# Altium footprint library IC.PCBLIB: 30 footprints (part 2 of 2)
Each footprint in its own frame and in the unit in brackets; x right, y up, seen from the top. Pads: shape width x height; smd on the part's side, far side on the other; paste and mask are expansions set on the pad; w line width, h text height; cw(c..) or ccw(c..) is an arc to the next point about the centre after c.
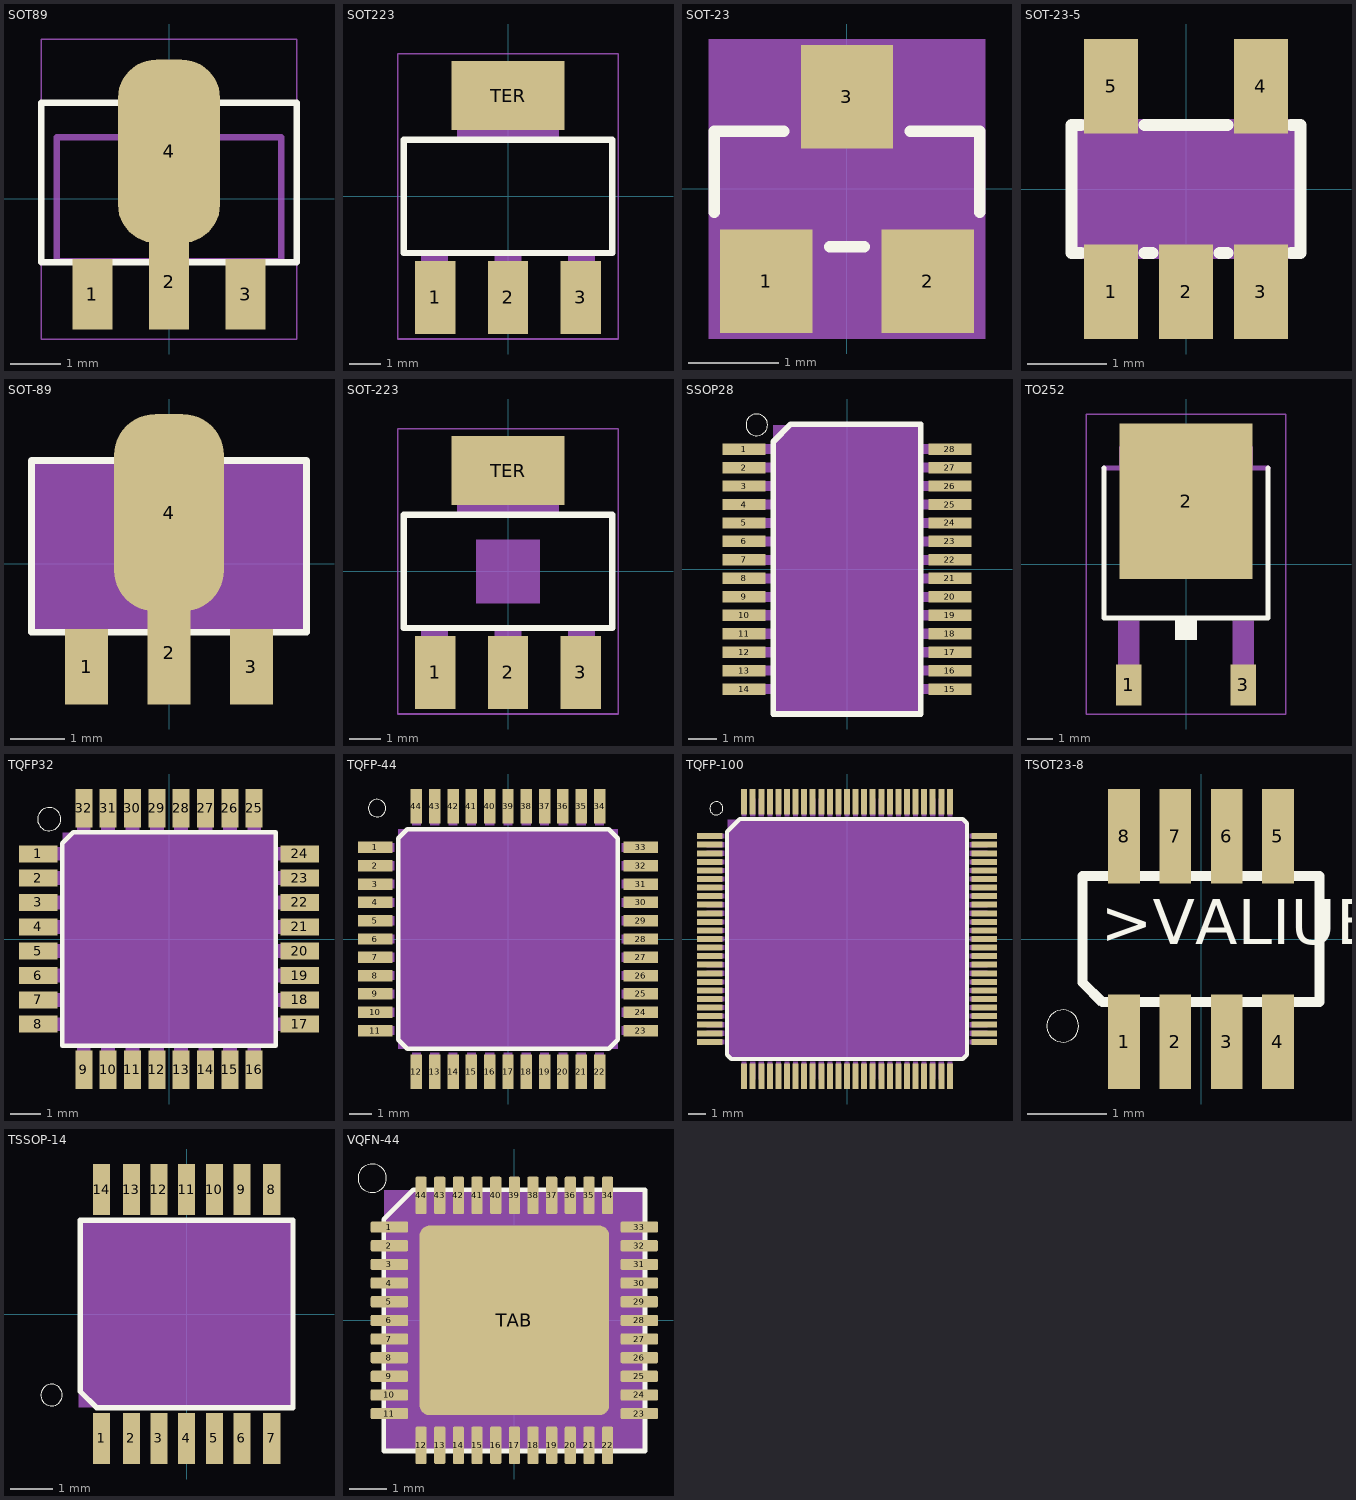
[diagram p1: the footprints below, top view; thin cyan lines are the x and y axes]

## SOT89 [mil]
pads (4):
  rect 31.5x55.12 smd: 1(-60,-75) 3(60,-75)
  rect 31.5x74.8 smd: 2(0,-65)
  rrect75% 80x143.7 smd: 4(0,37.01)
Top Overlay:
  lines w5: -100,-50 100,-50 100,75 -100,75 -100,-50
Top Paste:
  rectangle: -15.75,-105.51 15.75,-50.39
Top Solder:
  rectangle: -19.69,-109.45 19.69,-46.46
Mechanical 16:
  rectangle: -68,-83 -50,-50
  rectangle: 50,-83 68,-50
  rectangle: -11,-83 11,-50
  region: 0,0 10,0 10,10 0,10
  lines w5: -87.99,-49.02 87.99,-49.02 87.99,47.99 -87.99,47.99 -87.99,-49.02
  lines w7.87: -31,51 31,51 31,62 14,79 -14,79 -31,62 -31,51
Mechanical 27:
  lines w1: -100,-110 100,-110 100,125 -100,125 -100,-110

## SOT223 [mil]
pads (4):
  rect 50x90 smd: 1(-90,-125) 2(0,-125) 3(90,-125)
  rect 140x85 smd: TER(0,125)
Top Overlay:
  lines w8: -129.02,-70 129.02,-70 129.02,70 -129.02,70 -129.02,-70
Mechanical 16:
  rectangle: -63,71 63,144
  rectangle: -17,-144 17,-71
  rectangle: -108,-144 -74,-71
  rectangle: 74,-144 108,-71
  rectangle: -63,71 63,144
  rectangle: -17,-144 17,-71
  rectangle: -108,-144 -74,-71
  rectangle: 74,-144 108,-71
Mechanical 27:
  lines w2: -136.73,-176.5 136.73,-176.5 136.73,176.5 -136.73,176.5 -136.73,-176.5

## SOT-23 [mil]
pads (3):
  rect 40x45 smd: 1(-35,-40) 2(35,-40) 3(0,40)
Top Overlay:
  lines w5: -57.5,-10 -57.5,25 -27.5,25 ; -7.5,-25 7.5,-25 ; 27.5,25 57.5,25 57.5,-10
Mechanical 16:
  rectangle: -9,28 9,51
  rectangle: 28,-51 46,-28
  rectangle: -46,-51 -28,-28
Mechanical 27:
  rectangle: -60,-65 60,65

## SOT-23-5 [mil]
pads (5):
  rect 27.17x47.24 smd: 1(-37.4,-51.19) 2(0,-51.19) 3(37.4,-51.19) 4(37.4,51.19) 5(-37.4,51.19)
Top Overlay:
  lines w6: -52.27,-31.91 -57.09,-31.91 -57.09,31.91 -52.27,31.91 ; -20.57,-31.91 -16.83,-31.91 ; -20.57,31.91 20.57,31.91 ; 16.83,-31.91 20.57,-31.91 ; 52.27,-31.91 57.09,-31.91 57.09,31.91 52.27,31.91
Mechanical 16:
  rectangle: -47.24,-59.06 -27.56,-33.46
  rectangle: -9.84,-59.06 9.84,-33.46
  rectangle: 27.56,-59.06 47.24,-33.46
  rectangle: 27.56,33.46 47.24,59.06
  rectangle: -47.24,33.46 -27.56,59.06
  lines w6: -56,-31.91 56,-31.91 ; -56,31.91 56,31.91
Mechanical 27:
  rectangle: -55,-30 55,30

## SOT-89 [mil]
pads (4):
  rect 31.5x55.12 smd: 1(-60,-75) 3(60,-75)
  rect 31.5x74.8 smd: 2(0,-65)
  rrect75% 80x143.7 smd: 4(0,37.01)
Top Overlay:
  lines w5: -100,-50 100,-50 100,75 -100,75 -100,-50
Top Paste:
  rectangle: -15.75,-105.51 15.75,-50.39
Top Solder:
  rectangle: -19.69,-109.45 19.69,-46.46
Mechanical 16:
  rectangle: -68,-83 -50,-50
  rectangle: 50,-83 68,-50
  rectangle: -11,-83 11,-50
  region: 0,0 10,0 10,10 0,10
  lines w5: -87.99,-49.02 87.99,-49.02 87.99,47.99 -87.99,47.99 -87.99,-49.02
  lines w7.87: -31,51 31,51 31,62 14,79 -14,79 -31,62 -31,51
Mechanical 27:
  rectangle: -100,-50 100,75

## SOT-223 [mil]
pads (4):
  rect 50x90 smd: 1(-90,-125) 2(0,-125) 3(90,-125)
  rect 140x85 smd: TER(0,125)
Top Overlay:
  lines w8: -129.02,-70 129.02,-70 129.02,70 -129.02,70 -129.02,-70
Mechanical 6:
  rectangle: -39.37,-39.37 39.37,39.37
Mechanical 16:
  rectangle: -63,71 63,144
  rectangle: -17,-144 17,-71
  rectangle: -108,-144 -74,-71
  rectangle: 74,-144 108,-71
  rectangle: -63,71 63,144
  rectangle: -17,-144 17,-71
  rectangle: -108,-144 -74,-71
  rectangle: 74,-144 108,-71
Mechanical 27:
  lines w2: -136.73,-176.5 136.73,-176.5 136.73,176.5 -136.73,176.5 -136.73,-176.5

## SSOP28 [mil]
pads (28):
  rect 59.06x15.75 smd: 1(-142.72,166.34) 2(-142.72,140.75) 3(-142.72,115.16) 4(-142.72,89.57) 5(-142.72,63.98) 6(-142.72,38.39) 7(-142.72,12.8) 8(-142.72,-12.8) 9(-142.72,-38.39) 10(-142.72,-63.98) 11(-142.72,-89.57) 12(-142.72,-115.16) 13(-142.72,-140.75) 14(-142.72,-166.34) 15(142.72,-166.34) 16(142.72,-140.75) 17(142.72,-115.16) 18(142.72,-89.57) 19(142.72,-63.98) 20(142.72,-38.39) 21(142.72,-12.8) 22(142.72,12.8) 23(142.72,38.39) 24(142.72,63.98) 25(142.72,89.57) 26(142.72,115.16) 27(142.72,140.75) 28(142.72,166.34)
Top Overlay:
  circle w0: c-125,200 r15
  lines w8: -102.36,-200.79 -102.36,176.6 -78.18,200.79 102.36,200.79 102.36,-200.79 -102.36,-200.79
Mechanical 16:
  region: -155,173.34 -155,159.34 -104,159.34 -104,173.34
  region: -155,147.75 -155,133.75 -104,133.75 -104,147.75
  region: -155,122.16 -155,108.16 -104,108.16 -104,122.16
  region: -155,96.57 -155,82.57 -104,82.57 -104,96.57
  region: -155,70.98 -155,56.98 -104,56.98 -104,70.98
  region: -155,45.39 -155,31.39 -104,31.39 -104,45.39
  region: -155,19.8 -155,5.8 -104,5.8 -104,19.8
  region: -155,-5.8 -155,-19.8 -104,-19.8 -104,-5.8
  region: -155,-31.39 -155,-45.39 -104,-45.39 -104,-31.39
  region: -155,-56.98 -155,-70.98 -104,-70.98 -104,-56.98
  region: -155,-82.57 -155,-96.57 -104,-96.57 -104,-82.57
  region: -155,-108.16 -155,-122.16 -104,-122.16 -104,-108.16
  region: -155,-133.75 -155,-147.75 -104,-147.75 -104,-133.75
  region: -155,-159.34 -155,-173.34 -104,-173.34 -104,-159.34
  region: 104,-159.34 104,-173.34 155,-173.34 155,-159.34
  region: 104,-133.75 104,-147.75 155,-147.75 155,-133.75
  region: 104,-108.16 104,-122.16 155,-122.16 155,-108.16
  region: 104,-82.57 104,-96.57 155,-96.57 155,-82.57
  region: 104,-56.98 104,-70.98 155,-70.98 155,-56.98
  region: 104,-31.39 104,-45.39 155,-45.39 155,-31.39
  region: 104,-5.8 104,-19.8 155,-19.8 155,-5.8
  region: 104,19.8 104,5.8 155,5.8 155,19.8
  region: 104,45.39 104,31.39 155,31.39 155,45.39
  region: 104,70.98 104,56.98 155,56.98 155,70.98
  region: 104,96.57 104,82.57 155,82.57 155,96.57
  region: 104,122.16 104,108.16 155,108.16 155,122.16
  region: 104,147.75 104,133.75 155,133.75 155,147.75
  region: 104,173.34 104,159.34 155,159.34 155,173.34
Mechanical 27:
  region: -102.36,200 -102.36,-200 102.36,-200 102.36,200

## TO252 [mil]
pads (3):
  rect 40x65 smd: 1(-90,-190) 3(90,-190)
  rect 208.66x244.09 smd: 2(0,98.43)
Top Overlay:
  rectangle: -17,-119 17,-89
  lines w8: -129,151 -129.02,-85 129.02,-85 129,151
Mechanical 16:
  rectangle: -107,-203 -73,-89
  rectangle: 73,-203 107,-89
  region: 0,0 10,0 10,10 0,10
  lines w8: -129.02,150.98 129.03,150.97 ; -101,155 -101,183 -83,201 83,201 101,183 101,155 -101,155
Mechanical 27:
  lines w2: -156.42,-235.55 156.42,-235.55 156.42,235.55 -156.42,235.55 -156.42,-235.55

## TQFP32 [mil]
pads (32):
  rect 50x22 smd: 1(-169,110.24) 2(-169,78.74) 3(-169,47.24) 4(-169,15.75) 5(-169,-15.75) 6(-169,-47.24) 7(-169,-78.74) 8(-169,-110.24) 17(169,-110.24) 18(169,-78.74) 19(169,-47.24) 20(169,-15.75) 21(169,15.75) 22(169,47.24) 23(169,78.74) 24(169,110.24)
  rect 22x50 smd: 9(-110.24,-169) 10(-78.74,-169) 11(-47.24,-169) 12(-15.75,-169) 13(15.75,-169) 14(47.24,-169) 15(78.74,-169) 16(110.24,-169) 25(110.24,169) 26(78.74,169) 27(47.24,169) 28(15.75,169) 29(-15.75,169) 30(-47.24,169) 31(-78.74,169) 32(-110.24,169)
Top Overlay:
  circle w0: c-155,155 r15
  lines w6: -137.99,-137.99 137.99,-137.99 137.99,137.99 -124.02,137.99 -137.99,124.02 -137.99,-137.99
Mechanical 16:
  rectangle: -179,101.24 -140,119.24
  rectangle: -179,69.74 -140,87.74
  rectangle: -179,38.24 -140,56.24
  rectangle: -179,6.75 -140,24.75
  rectangle: -179,-24.75 -140,-6.75
  rectangle: -179,-56.24 -140,-38.24
  rectangle: -179,-87.74 -140,-69.74
  rectangle: -179,-119.24 -140,-101.24
  rectangle: -119.24,-179 -101.24,-140
  rectangle: -87.74,-179 -69.74,-140
  rectangle: -56.24,-179 -38.24,-140
  rectangle: -24.75,-179 -6.75,-140
  rectangle: 6.75,-179 24.75,-140
  rectangle: 38.24,-179 56.24,-140
  rectangle: 69.74,-179 87.74,-140
  rectangle: 101.24,-179 119.24,-140
  rectangle: 140,-119.24 179,-101.24
  rectangle: 140,-87.74 179,-69.74
  rectangle: 140,-56.24 179,-38.24
  rectangle: 140,-24.75 179,-6.75
  rectangle: 140,6.75 179,24.75
  rectangle: 140,38.24 179,56.24
  rectangle: 140,69.74 179,87.74
  rectangle: 140,101.24 179,119.24
  rectangle: 101.24,140 119.24,179
  rectangle: 69.74,140 87.74,179
  rectangle: 38.24,140 56.24,179
  rectangle: 6.75,140 24.75,179
  rectangle: -24.75,140 -6.75,179
  rectangle: -56.24,140 -38.24,179
  rectangle: -87.74,140 -69.74,179
  rectangle: -119.24,140 -101.24,179
Mechanical 27:
  rectangle: -137.99,-137.99 137.99,137.99

## TQFP-44 [mil]
pads (44):
  rect 59.06x19.69 smd: 1(-228.35,157.48) 2(-228.35,125.98) 3(-228.35,94.49) 4(-228.35,62.99) 5(-228.35,31.5) 6(-228.35,0) 7(-228.35,-31.5) 8(-228.35,-62.99) 9(-228.35,-94.49) 10(-228.35,-125.98) 11(-228.35,-157.48) 23(228.35,-157.48) 24(228.35,-125.98) 25(228.35,-94.49) 26(228.35,-62.99) 27(228.35,-31.5) 28(228.35,0) 29(228.35,31.5) 30(228.35,62.99) 31(228.35,94.49) 32(228.35,125.98) 33(228.35,157.48)
  rect 19.69x59.06 smd: 12(-157.48,-228.35) 13(-125.98,-228.35) 14(-94.49,-228.35) 15(-62.99,-228.35) 16(-31.5,-228.35) 17(0,-228.35) 18(31.5,-228.35) 19(62.99,-228.35) 20(94.49,-228.35) 21(125.98,-228.35) 22(157.48,-228.35) 34(157.48,228.35) 35(125.98,228.35) 36(94.49,228.35) 37(62.99,228.35) 38(31.5,228.35) 39(0,228.35) 40(-31.5,228.35) 41(-62.99,228.35) 42(-94.49,228.35) 43(-125.98,228.35) 44(-157.48,228.35)
Top Overlay:
  circle w0: c-225,225 r15
  lines w8: -188.98,-173.23 -173.23,-188.98 173.23,-188.98 188.98,-173.23 188.98,173.23 173.23,188.98 -173.23,188.98 -188.98,173.23 -188.98,-173.23
Mechanical 16:
  rectangle: -240.16,149.61 -194.88,165.35
  rectangle: -240.16,118.11 -194.88,133.86
  rectangle: -240.16,86.61 -194.88,102.36
  rectangle: -240.16,55.12 -194.88,70.87
  rectangle: -240.16,23.62 -194.88,39.37
  rectangle: -240.16,-7.87 -194.88,7.87
  rectangle: -240.16,-39.37 -194.88,-23.62
  rectangle: -240.16,-70.87 -194.88,-55.12
  rectangle: -240.16,-102.36 -194.88,-86.61
  rectangle: -240.16,-133.86 -194.88,-118.11
  rectangle: -240.16,-165.35 -194.88,-149.61
  rectangle: -165.35,-240.16 -149.61,-194.88
  rectangle: -133.86,-240.16 -118.11,-194.88
  rectangle: -102.36,-240.16 -86.61,-194.88
  rectangle: -70.87,-240.16 -55.12,-194.88
  rectangle: -39.37,-240.16 -23.62,-194.88
  rectangle: -7.87,-240.16 7.87,-194.88
  rectangle: 23.62,-240.16 39.37,-194.88
  rectangle: 55.12,-240.16 70.87,-194.88
  rectangle: 86.61,-240.16 102.36,-194.88
  rectangle: 118.11,-240.16 133.86,-194.88
  rectangle: 149.61,-240.16 165.35,-194.88
  rectangle: 194.88,-165.35 240.16,-149.61
  rectangle: 194.88,-133.86 240.16,-118.11
  rectangle: 194.88,-102.36 240.16,-86.61
  rectangle: 194.88,-70.87 240.16,-55.12
  rectangle: 194.88,-39.37 240.16,-23.62
  rectangle: 194.88,-7.87 240.16,7.87
  rectangle: 194.88,23.62 240.16,39.37
  rectangle: 194.88,55.12 240.16,70.87
  rectangle: 194.88,86.61 240.16,102.36
  rectangle: 194.88,118.11 240.16,133.86
  rectangle: 194.88,149.61 240.16,165.35
  rectangle: 149.61,194.88 165.35,240.16
  rectangle: 118.11,194.88 133.86,240.16
  rectangle: 86.61,194.88 102.36,240.16
  rectangle: 55.12,194.88 70.87,240.16
  rectangle: 23.62,194.88 39.37,240.16
  rectangle: -7.87,194.88 7.87,240.16
  rectangle: -39.37,194.88 -23.62,240.16
  rectangle: -70.87,194.88 -55.12,240.16
  rectangle: -102.36,194.88 -86.61,240.16
  rectangle: -133.86,194.88 -118.11,240.16
  rectangle: -165.35,194.88 -149.61,240.16
Mechanical 27:
  rectangle: -188.98,-188.98 188.98,188.98

## TQFP-100 [mm]
pads (100):
  rect 1.5x0.35 smd: 1(-8,6) 2(-8,5.5) 3(-8,5) 4(-8,4.5) 5(-8,4) 6(-8,3.5) 7(-8,3) 8(-8,2.5) 9(-8,2) 10(-8,1.5) 11(-8,1) 12(-8,0.5) 13(-8,0) 14(-8,-0.5) 15(-8,-1) 16(-8,-1.5) 17(-8,-2) 18(-8,-2.5) 19(-8,-3) 20(-8,-3.5) 21(-8,-4) 22(-8,-4.5) 23(-8,-5) 24(-8,-5.5) 25(-8,-6) 51(8,-6) 52(8,-5.5) 53(8,-5) 54(8,-4.5) 55(8,-4) 56(8,-3.5) 57(8,-3) 58(8,-2.5) 59(8,-2) 60(8,-1.5) 61(8,-1) 62(8,-0.5) 63(8,0) 64(8,0.5) 65(8,1) 66(8,1.5) 67(8,2) 68(8,2.5) 69(8,3) 70(8,3.5) 71(8,4) 72(8,4.5) 73(8,5) 74(8,5.5) 75(8,6)
  rect 0.35x1.5 smd: 26(-6,-8) 27(-5.5,-8) 28(-5,-8) 29(-4.5,-8) 30(-4,-8) 31(-3.5,-8) 32(-3,-8) 33(-2.5,-8) 34(-2,-8) 35(-1.5,-8) 36(-1,-8) 37(-0.5,-8) 38(0,-8) 39(0.5,-8) 40(1,-8) 41(1.5,-8) 42(2,-8) 43(2.5,-8) 44(3,-8) 45(3.5,-8) 46(4,-8) 47(4.5,-8) 48(5,-8) 49(5.5,-8) 50(6,-8) 76(6,8) 77(5.5,8) 78(5,8) 79(4.5,8) 80(4,8) 81(3.5,8) 82(3,8) 83(2.5,8) 84(2,8) 85(1.5,8) 86(1,8) 87(0.5,8) 88(0,8) 89(-0.5,8) 90(-1,8) 91(-1.5,8) 92(-2,8) 93(-2.5,8) 94(-3,8) 95(-3.5,8) 96(-4,8) 97(-4.5,8) 98(-5,8) 99(-5.5,8) 100(-6,8)
Top Overlay:
  circle w0: c-7.62,7.62 r0.381
  lines w0.254: -7,-6.75 -6.75,-7 6.75,-7 7,-6.75 7,6.75 6.75,7 -6.25,7 -7,6.25 -7,-6.75
Mechanical 16:
  circle w0.102: c3.59,-0.77 r0.5
  rectangle: -8.2,5.85 -7.15,6.15
  rectangle: -8.2,5.35 -7.15,5.65
  rectangle: -8.2,4.85 -7.15,5.15
  rectangle: -8.2,4.35 -7.15,4.65
  rectangle: -8.2,3.85 -7.15,4.15
  rectangle: -8.2,3.35 -7.15,3.65
  rectangle: -8.2,2.85 -7.15,3.15
  rectangle: -8.2,2.35 -7.15,2.65
  rectangle: -8.2,1.85 -7.15,2.15
  rectangle: -8.2,1.35 -7.15,1.65
  rectangle: -8.2,0.85 -7.15,1.15
  rectangle: -8.2,0.35 -7.15,0.65
  rectangle: -8.2,-0.15 -7.15,0.15
  rectangle: -8.2,-0.65 -7.15,-0.35
  rectangle: -8.2,-1.15 -7.15,-0.85
  rectangle: -8.2,-1.65 -7.15,-1.35
  rectangle: -8.2,-2.15 -7.15,-1.85
  rectangle: -8.2,-2.65 -7.15,-2.35
  rectangle: -8.2,-3.15 -7.15,-2.85
  rectangle: -8.2,-3.65 -7.15,-3.35
  rectangle: -8.2,-4.15 -7.15,-3.85
  rectangle: -8.2,-4.65 -7.15,-4.35
  rectangle: -8.2,-5.15 -7.15,-4.85
  rectangle: -8.2,-5.65 -7.15,-5.35
  rectangle: -8.2,-6.15 -7.15,-5.85
  rectangle: -6.15,-8.2 -5.85,-7.15
  rectangle: -5.65,-8.2 -5.35,-7.15
  rectangle: -5.15,-8.2 -4.85,-7.15
  rectangle: -4.65,-8.2 -4.35,-7.15
  rectangle: -4.15,-8.2 -3.85,-7.15
  rectangle: -3.65,-8.2 -3.35,-7.15
  rectangle: -3.15,-8.2 -2.85,-7.15
  rectangle: -2.65,-8.2 -2.35,-7.15
  rectangle: -2.15,-8.2 -1.85,-7.15
  rectangle: -1.65,-8.2 -1.35,-7.15
  rectangle: -1.15,-8.2 -0.85,-7.15
  rectangle: -0.65,-8.2 -0.35,-7.15
  rectangle: -0.15,-8.2 0.15,-7.15
  rectangle: 0.35,-8.2 0.65,-7.15
  rectangle: 0.85,-8.2 1.15,-7.15
  rectangle: 1.35,-8.2 1.65,-7.15
  rectangle: 1.85,-8.2 2.15,-7.15
  rectangle: 2.35,-8.2 2.65,-7.15
  rectangle: 2.85,-8.2 3.15,-7.15
  rectangle: 3.35,-8.2 3.65,-7.15
  rectangle: 3.85,-8.2 4.15,-7.15
  rectangle: 4.35,-8.2 4.65,-7.15
  rectangle: 4.85,-8.2 5.15,-7.15
  rectangle: 5.35,-8.2 5.65,-7.15
  rectangle: 5.85,-8.2 6.15,-7.15
  rectangle: 7.15,-6.15 8.2,-5.85
  rectangle: 7.15,-5.65 8.2,-5.35
  rectangle: 7.15,-5.15 8.2,-4.85
  rectangle: 7.15,-4.65 8.2,-4.35
  rectangle: 7.15,-4.15 8.2,-3.85
  rectangle: 7.15,-3.65 8.2,-3.35
  rectangle: 7.15,-3.15 8.2,-2.85
  rectangle: 7.15,-2.65 8.2,-2.35
  rectangle: 7.15,-2.15 8.2,-1.85
  rectangle: 7.15,-1.65 8.2,-1.35
  rectangle: 7.15,-1.15 8.2,-0.85
  rectangle: 7.15,-0.65 8.2,-0.35
  rectangle: 7.15,-0.15 8.2,0.15
  rectangle: 7.15,0.35 8.2,0.65
  rectangle: 7.15,0.85 8.2,1.15
  rectangle: 7.15,1.35 8.2,1.65
  rectangle: 7.15,1.85 8.2,2.15
  rectangle: 7.15,2.35 8.2,2.65
  rectangle: 7.15,2.85 8.2,3.15
  rectangle: 7.15,3.35 8.2,3.65
  rectangle: 7.15,3.85 8.2,4.15
  rectangle: 7.15,4.35 8.2,4.65
  rectangle: 7.15,4.85 8.2,5.15
  rectangle: 7.15,5.35 8.2,5.65
  rectangle: 7.15,5.85 8.2,6.15
  rectangle: 5.85,7.15 6.15,8.2
  rectangle: 5.35,7.15 5.65,8.2
  rectangle: 4.85,7.15 5.15,8.2
  rectangle: 4.35,7.15 4.65,8.2
  rectangle: 3.85,7.15 4.15,8.2
  rectangle: 3.35,7.15 3.65,8.2
  rectangle: 2.85,7.15 3.15,8.2
  rectangle: 2.35,7.15 2.65,8.2
  rectangle: 1.85,7.15 2.15,8.2
  rectangle: 1.35,7.15 1.65,8.2
  rectangle: 0.85,7.15 1.15,8.2
  rectangle: 0.35,7.15 0.65,8.2
  rectangle: -0.15,7.15 0.15,8.2
  rectangle: -0.65,7.15 -0.35,8.2
  rectangle: -1.15,7.15 -0.85,8.2
  rectangle: -1.65,7.15 -1.35,8.2
  rectangle: -2.15,7.15 -1.85,8.2
  rectangle: -2.65,7.15 -2.35,8.2
  rectangle: -3.15,7.15 -2.85,8.2
  rectangle: -3.65,7.15 -3.35,8.2
  rectangle: -4.15,7.15 -3.85,8.2
  rectangle: -4.65,7.15 -4.35,8.2
  rectangle: -5.15,7.15 -4.85,8.2
  rectangle: -5.65,7.15 -5.35,8.2
  rectangle: -6.15,7.15 -5.85,8.2
  region: 0,0 0.254,0 0.254,0.254 0,0.254
  region: 0,0 0.254,0 0.254,0.254 0,0.254
  region: 0,0 0.254,0 0.254,0.254 0,0.254
  region: 0,0 0.254,0 0.254,0.254 0,0.254
  region: 0,0 0.254,0 0.254,0.254 0,0.254
  region: 0,0 0.254,0 0.254,0.254 0,0.254
  lines w0.102: -0.01,1.33 cw(c-0.01,0.93) 0.39,0.93
  text "TQFP 100" at -2.81,-2.48 h1.26
  text "R" at 3.39,-1.07 h0.94
Mechanical 27:
  rectangle: -6.985,-6.985 6.985,6.985

## TSOT23-8 [mil]
pads (8):
  rect 15.75x47.24 smd: 1(-38.39,-51.18) 2(-12.8,-51.18) 3(12.8,-51.18) 4(38.39,-51.18) 5(38.39,51.18) 6(12.8,51.18) 7(-12.8,51.18) 8(-38.39,51.18)
Top Overlay:
  circle w0: c-68.98,-43.39 r8
  lines w5: -59.06,-21.65 -49.21,-31.5 59.06,-31.5 59.06,31.5 -59.06,31.5 -59.06,-21.65
  text ">VALIUE" at -50,-10 h38.75

## TSSOP-14 [mm]
pads (14):
  rect 0.4x1.2 smd: 1(-2,-2.925) 2(-1.3,-2.925) 3(-0.65,-2.925) 4(0,-2.925) 5(0.65,-2.925) 6(1.3,-2.925) 7(2,-2.925) 8(2,2.925) 9(1.3,2.925) 10(0.65,2.925) 11(0,2.925) 12(-0.65,2.925) 13(-1.3,2.925) 14(-2,2.925)
Top Overlay:
  circle w0: c-3.175,-1.905 r0.254
  lines w0.127: -2.5,-1.819 -2.119,-2.2 2.5,-2.2 2.5,2.2 -2.5,2.2 -2.5,-1.819
Mechanical 27:
  rectangle: -2.54,-2.2 2.54,2.2

## VQFN-44 [mm]
pads (45):
  rrect25% 1x0.3 smd: 1(-3.35,2.5) 2(-3.35,2) 3(-3.35,1.5) 4(-3.35,1) 5(-3.35,0.5) 6(-3.35,0) 7(-3.35,-0.5) 8(-3.35,-1) 9(-3.35,-1.5) 10(-3.35,-2) 11(-3.35,-2.5) 23(3.35,-2.5) 24(3.35,-2) 25(3.35,-1.5) 26(3.35,-1) 27(3.35,-0.5) 28(3.35,0) 29(3.35,0.5) 30(3.35,1) 31(3.35,1.5) 32(3.35,2) 33(3.35,2.5)
  rrect25% 0.3x1 smd: 12(-2.5,-3.35) 13(-2,-3.35) 14(-1.5,-3.35) 15(-1,-3.35) 16(-0.5,-3.35) 17(0,-3.35) 18(0.5,-3.35) 19(1,-3.35) 20(1.5,-3.35) 21(2,-3.35) 22(2.5,-3.35) 34(2.5,3.35) 35(2,3.35) 36(1.5,3.35) 37(1,3.35) 38(0.5,3.35) 39(0,3.35) 40(-0.5,3.35) 41(-1,3.35) 42(-1.5,3.35) 43(-2,3.35) 44(-2.5,3.35)
  rrect10% 5.08x5.08 smd: TAB(0,0)
Top Overlay:
  circle w0: c-3.81,3.81 r0.381
  lines w0.127: -3.5,-3.5 -3.5,2.709 -2.709,3.5 3.5,3.5 3.5,-3.5 -3.5,-3.5
Mechanical 27:
  rectangle: -3.5,-3.5 3.5,3.5